# Altium integrated library TI_Logic_Flip-Flop,Latch,Register.IntLib: 2598 symbols (part 59 of 122)
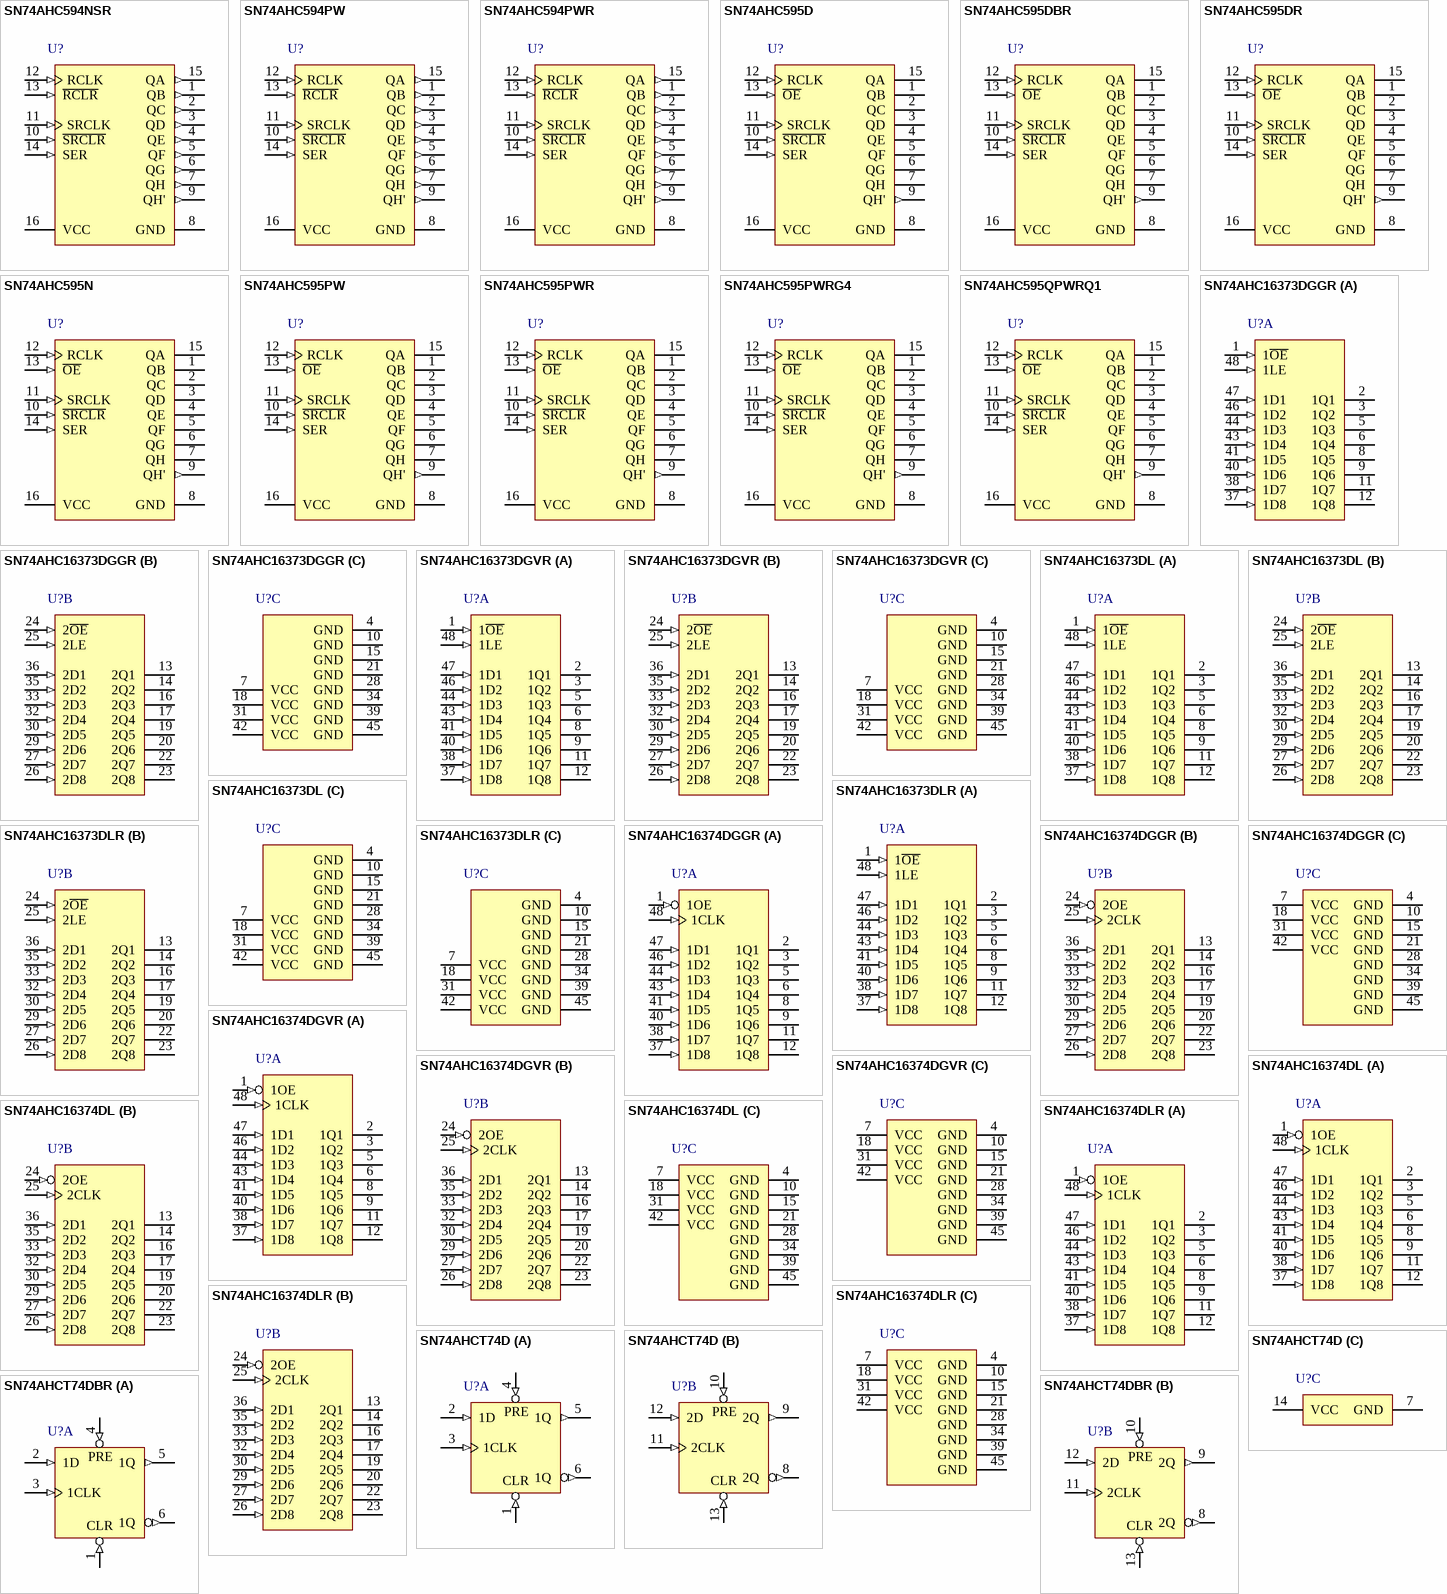
[diagram p197: symbols SN74AHC594NSR to SN74AHCT74DBR]

## SN74AHCT74D
designator U?
Dual Positive-Edge-Triggered D-Type Flip-Flops With Clear and Preset, D0014A, TUBE; Generic Part Number: SN74AHCT74; Manufacturer: Texas Instruments; PartNumber: SN74AHCT74D; VCC(Min)(V): 4.5; VCC(Max)(V): 5.5; Output Type: CMOS; Output: 3S; ICC @ Nom Voltage(Max)(mA): 0.02; Input Type: TTL; Bits(#): 2; F @ Nom Voltage(Max)(Mhz): 70; Rating: Catalog; Technology Family: AHCT; Voltage(Nom)(V): 5; Schmitt Trigger: No; Output Drive (IOL/IOH)(Max)(mA): 8/-8; Output Logic: Inverted,Non-inverted; tpd @ Nom Voltage(Max)(ns): 10; DatasheetVersion: SCLS263O; PackageReference: D0014A; Supplier 1: Digi-Key; Supplier Part Number 1: 296-4769-5-ND; Supplier 2: Farnell; Supplier Part Number 2: 9590781; Supplier 3: Newark; Supplier Part Number 3: 98K0258; Supplier 4: Mouser; Supplier Part Number 4: 595-SN74AHCT74D; Operating Temperature Range(C): -40 to 125; 3-State Output: No; Code_JEDEC: MS-012; ComponentLink1Description: Manufacturer URL; ComponentLink1URL: http://www.ti.com/; ComponentLink2Description: Datasheet; ComponentLink2URL: http://www.ti.com/lit/ds/symlink/sn74ahct74.pdf; ComponentLink3Description: Package Specification; ComponentLink3URL: http://www.ti.com/lit/ml/mpds177g/mpds177g.pdf
footprint D0014A_N (SOIC, 14-Leads, Body 8.75x4mm, Pitch 1.27mm, IPC Medium Density)
footprint D0014A_M (SOIC, 14-Leads, Body 8.75x4mm, Pitch 1.27mm, IPC Low Density)
footprint D0014A_L (SOIC, 14-Leads, Body 8.75x4mm, Pitch 1.27mm, IPC High Density)
part A pins: 1 1~{CLR} (in), 2 1D (in), 3 1CLK (in), 4 1~{PRE} (in), 5 1Q (out), 6 1Q (out)
part B pins: 8 2Q (out), 9 2Q (out), 10 2~{PRE} (in), 11 2CLK (in), 12 2D (in), 13 2~{CLR} (in)
part C pins: 7 GND (power), 14 VCC (power)
part A text: PRE; CLR
part B text: PRE; CLR

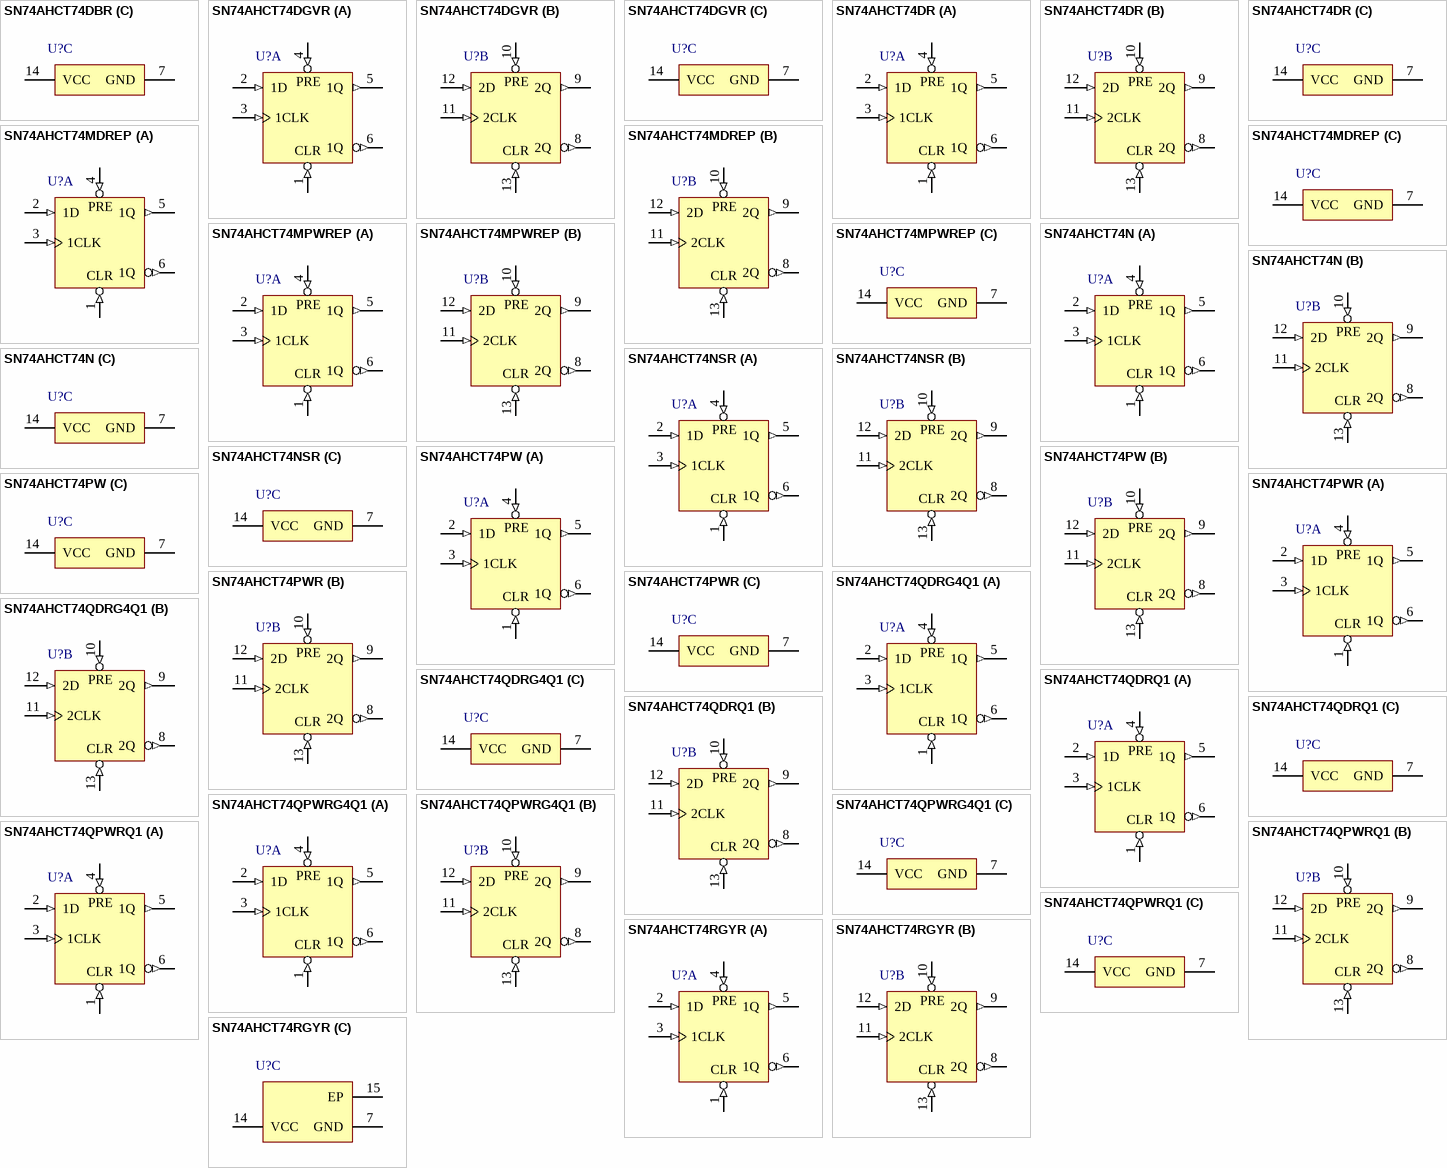
[diagram p68: symbols SN74AHCT74DBR to SN74AHCT74RGYR]

## SN74AHCT74DBR
designator U?
Dual Positive-Edge-Triggered D-Type Flip-Flops With Clear and Preset, DB0014A, LARGE T&R; Generic Part Number: SN74AHCT74; Manufacturer: Texas Instruments; PartNumber: SN74AHCT74DBR; VCC(Min)(V): 4.5; VCC(Max)(V): 5.5; Output Type: CMOS; Output: 3S; ICC @ Nom Voltage(Max)(mA): 0.02; Input Type: TTL; Bits(#): 2; F @ Nom Voltage(Max)(Mhz): 70; Rating: Catalog; Technology Family: AHCT; Voltage(Nom)(V): 5; Schmitt Trigger: No; Output Drive (IOL/IOH)(Max)(mA): 8/-8; Output Logic: Inverted,Non-inverted; tpd @ Nom Voltage(Max)(ns): 10; DatasheetVersion: SCLS263O; PackageReference: DB0014A; Supplier 1: Digi-Key; Supplier Part Number 1: 296-4770-2-ND; Supplier 2: Digi-Key; Supplier Part Number 2: 296-4770-1-ND; Supplier 3: Digi-Key; Supplier Part Number 3: 296-4770-6-ND; Supplier 4: Newark; Supplier Part Number 4: 76C1673; Supplier 5: Mouser; Supplier Part Number 5: 595-SN74AHCT74DBR; Operating Temperature Range(C): -40 to 125; 3-State Output: No; Code_JEDEC: MO-150; ComponentLink1Description: Manufacturer URL; ComponentLink1URL: http://www.ti.com/; ComponentLink2Description: Datasheet; ComponentLink2URL: http://www.ti.com/lit/ds/symlink/sn74ahct74.pdf; ComponentLink3Description: Package Specification; ComponentLink3URL: http://www.ti.com/lit/ml/msso002e/msso002e.pdf
footprint DB0014A_N (SOP, 14-Leads, Body 5.6x6.5mm, Pitch 0.65mm, IPC Medium Density)
footprint DB0014A_M (SOP, 14-Leads, Body 5.6x6.5mm, Pitch 0.65mm, IPC Low Density)
footprint DB0014A_L (SOP, 14-Leads, Body 5.6x6.5mm, Pitch 0.65mm, IPC High Density)
part A pins: 1 1~{CLR} (in), 2 1D (in), 3 1CLK (in), 4 1~{PRE} (in), 5 1Q (out), 6 1Q (out)
part B pins: 8 2Q (out), 9 2Q (out), 10 2~{PRE} (in), 11 2CLK (in), 12 2D (in), 13 2~{CLR} (in)
part C pins: 7 GND (power), 14 VCC (power)
part A text: PRE; CLR
part B text: PRE; CLR

## SN74AHCT74DGVR
designator U?
Dual Positive-Edge-Triggered D-Type Flip-Flops With Clear and Preset, DGV0014A, LARGE T&R; Generic Part Number: SN74AHCT74; Manufacturer: Texas Instruments; PartNumber: SN74AHCT74DGVR; VCC(Min)(V): 4.5; VCC(Max)(V): 5.5; Output Type: CMOS; Output: 3S; ICC @ Nom Voltage(Max)(mA): 0.02; Input Type: TTL; Bits(#): 2; F @ Nom Voltage(Max)(Mhz): 70; Rating: Catalog; Technology Family: AHCT; Voltage(Nom)(V): 5; Schmitt Trigger: No; Output Drive (IOL/IOH)(Max)(mA): 8/-8; Output Logic: Inverted,Non-inverted; tpd @ Nom Voltage(Max)(ns): 10; DatasheetVersion: SCLS263O; PackageReference: DGV0014A; Supplier 1: Digi-Key; Supplier Part Number 1: 296-4771-2-ND; Supplier 2: Digi-Key; Supplier Part Number 2: 296-4771-1-ND; Supplier 3: Digi-Key; Supplier Part Number 3: 296-4771-6-ND; Supplier 4: Mouser; Supplier Part Number 4: 595-SN74AHCT74DGVR; Operating Temperature Range(C): -40 to 125; 3-State Output: No; Code_JEDEC: MO-194; ComponentLink1Description: Manufacturer URL; ComponentLink1URL: http://www.ti.com/; ComponentLink2Description: Datasheet; ComponentLink2URL: http://www.ti.com/lit/ds/symlink/sn74ahct74.pdf; ComponentLink3Description: Package Specification; ComponentLink3URL: http://www.ti.com/lit/ml/mpds006c/mpds006c.pdf
footprint DGV0014A_N (SOP, 14-Leads, Body 4.5x3.7mm, Pitch 0.4mm, IPC Medium Density)
footprint DGV0014A_M (SOP, 14-Leads, Body 4.5x3.7mm, Pitch 0.4mm, IPC Low Density)
footprint DGV0014A_L (SOP, 14-Leads, Body 4.5x3.7mm, Pitch 0.4mm, IPC High Density)
part A pins: 1 1~{CLR} (in), 2 1D (in), 3 1CLK (in), 4 1~{PRE} (in), 5 1Q (out), 6 1Q (out)
part B pins: 8 2Q (out), 9 2Q (out), 10 2~{PRE} (in), 11 2CLK (in), 12 2D (in), 13 2~{CLR} (in)
part C pins: 7 GND (power), 14 VCC (power)
part A text: PRE; CLR
part B text: PRE; CLR

## SN74AHCT74DR
designator U?
Dual Positive-Edge-Triggered D-Type Flip-Flops With Clear and Preset, D0014A, LARGE T&R; Generic Part Number: SN74AHCT74; Manufacturer: Texas Instruments; PartNumber: SN74AHCT74DR; VCC(Min)(V): 4.5; VCC(Max)(V): 5.5; Output Type: CMOS; Output: 3S; ICC @ Nom Voltage(Max)(mA): 0.02; Input Type: TTL; Bits(#): 2; F @ Nom Voltage(Max)(Mhz): 70; Rating: Catalog; Technology Family: AHCT; Voltage(Nom)(V): 5; Schmitt Trigger: No; Output Drive (IOL/IOH)(Max)(mA): 8/-8; Output Logic: Inverted,Non-inverted; tpd @ Nom Voltage(Max)(ns): 10; DatasheetVersion: SCLS263O; PackageReference: D0014A; Supplier 1: Digi-Key; Supplier Part Number 1: 296-14704-2-ND; Supplier 2: Digi-Key; Supplier Part Number 2: 296-14704-1-ND; Supplier 3: Digi-Key; Supplier Part Number 3: 296-14704-6-ND; Supplier 4: Newark; Supplier Part Number 4: 76C1675; Supplier 5: Mouser; Supplier Part Number 5: 595-SN74AHCT74DR; Operating Temperature Range(C): -40 to 125; 3-State Output: No; Code_JEDEC: MS-012; ComponentLink1Description: Manufacturer URL; ComponentLink1URL: http://www.ti.com/; ComponentLink2Description: Datasheet; ComponentLink2URL: http://www.ti.com/lit/ds/symlink/sn74ahct74.pdf; ComponentLink3Description: Package Specification; ComponentLink3URL: http://www.ti.com/lit/ml/mpds177g/mpds177g.pdf
footprint D0014A_N (SOIC, 14-Leads, Body 8.75x4mm, Pitch 1.27mm, IPC Medium Density)
footprint D0014A_M (SOIC, 14-Leads, Body 8.75x4mm, Pitch 1.27mm, IPC Low Density)
footprint D0014A_L (SOIC, 14-Leads, Body 8.75x4mm, Pitch 1.27mm, IPC High Density)
part A pins: 1 1~{CLR} (in), 2 1D (in), 3 1CLK (in), 4 1~{PRE} (in), 5 1Q (out), 6 1Q (out)
part B pins: 8 2Q (out), 9 2Q (out), 10 2~{PRE} (in), 11 2CLK (in), 12 2D (in), 13 2~{CLR} (in)
part C pins: 7 GND (power), 14 VCC (power)
part A text: PRE; CLR
part B text: PRE; CLR

## SN74AHCT74MDREP
designator U?
Enhanced Product Dual Positive-Edge-Triggered D-Type Flip-Flop With Clear And Preset, D0014A, LARGE T&R; Generic Part Number: SN74AHCT74-EP; Manufacturer: Texas Instruments; PartNumber: SN74AHCT74MDREP; VCC(Min)(V): 4.5; VCC(Max)(V): 5.5; Output Type: CMOS; Output: 3S; ICC @ Nom Voltage(Max)(mA): 0.02; Input Type: TTL; Bits(#): 2; F @ Nom Voltage(Max)(Mhz): 70; Rating: HiRel Enhanced Product; Technology Family: AHCT; Voltage(Nom)(V): 5; Schmitt Trigger: No; Output Drive (IOL/IOH)(Max)(mA): 8/-8; Output Logic: Inverted,Non-inverted; tpd @ Nom Voltage(Max)(ns): 10; DatasheetVersion: SCLS495; PackageReference: D0014A; Supplier 1: Digi-Key; Supplier Part Number 1: 296-22289-2-ND; Supplier 2: Digi-Key; Supplier Part Number 2: 296-22289-1-ND; Supplier 3: Digi-Key; Supplier Part Number 3: 296-22289-6-ND; Supplier 4: Mouser; Supplier Part Number 4: 595-SN74AHCT74MDREP; Operating Temperature Range(C): -55 to 125; 3-State Output: No; Code_JEDEC: MS-012; ComponentLink1Description: Manufacturer URL; ComponentLink1URL: http://www.ti.com/; ComponentLink2Description: Datasheet; ComponentLink2URL: http://www.ti.com/lit/ds/symlink/sn74ahct74-ep.pdf; ComponentLink3Description: Package Specification; ComponentLink3URL: http://www.ti.com/lit/ml/mpds177g/mpds177g.pdf
footprint D0014A_N (SOIC, 14-Leads, Body 8.75x4mm, Pitch 1.27mm, IPC Medium Density)
footprint D0014A_M (SOIC, 14-Leads, Body 8.75x4mm, Pitch 1.27mm, IPC Low Density)
footprint D0014A_L (SOIC, 14-Leads, Body 8.75x4mm, Pitch 1.27mm, IPC High Density)
part A pins: 1 1~{CLR} (in), 2 1D (in), 3 1CLK (in), 4 1~{PRE} (in), 5 1Q (out), 6 1Q (out)
part B pins: 8 2Q (out), 9 2Q (out), 10 2~{PRE} (in), 11 2CLK (in), 12 2D (in), 13 2~{CLR} (in)
part C pins: 7 GND (power), 14 VCC (power)
part A text: PRE; CLR
part B text: PRE; CLR

## SN74AHCT74MPWREP
designator U?
Enhanced Product Dual Positive-Edge-Triggered D-Type Flip-Flop With Clear And Preset, PW0014A, LARGE T&R; Generic Part Number: SN74AHCT74-EP; Manufacturer: Texas Instruments; PartNumber: SN74AHCT74MPWREP; VCC(Min)(V): 4.5; VCC(Max)(V): 5.5; Output Type: CMOS; Output: 3S; ICC @ Nom Voltage(Max)(mA): 0.02; Input Type: TTL; Bits(#): 2; F @ Nom Voltage(Max)(Mhz): 70; Rating: HiRel Enhanced Product; Technology Family: AHCT; Voltage(Nom)(V): 5; Schmitt Trigger: No; Output Drive (IOL/IOH)(Max)(mA): 8/-8; Output Logic: Inverted,Non-inverted; tpd @ Nom Voltage(Max)(ns): 10; DatasheetVersion: SCLS495; PackageReference: PW0014A; Supplier 1: Digi-Key; Supplier Part Number 1: 296-22541-2-ND; Supplier 2: Digi-Key; Supplier Part Number 2: 296-22541-1-ND; Supplier 3: Digi-Key; Supplier Part Number 3: 296-22541-6-ND; Supplier 4: Mouser; Supplier Part Number 4: 595-SN74AHCT74MPWREP; Operating Temperature Range(C): -55 to 125; 3-State Output: No; Code_JEDEC: MO-153; ComponentLink1Description: Manufacturer URL; ComponentLink1URL: http://www.ti.com/; ComponentLink2Description: Datasheet; ComponentLink2URL: http://www.ti.com/lit/ds/symlink/sn74ahct74-ep.pdf; ComponentLink3Description: Package Specification; ComponentLink3URL: http://www.ti.com/lit/ml/mpds360/mpds360.pdf
footprint PW0014A_N (SOP, 14-Leads, Body 5.1x4.5mm, Pitch 0.65mm, IPC Medium Density)
footprint PW0014A_M (SOP, 14-Leads, Body 5.1x4.5mm, Pitch 0.65mm, IPC Low Density)
footprint PW0014A_L (SOP, 14-Leads, Body 5.1x4.5mm, Pitch 0.65mm, IPC High Density)
part A pins: 1 1~{CLR} (in), 2 1D (in), 3 1CLK (in), 4 1~{PRE} (in), 5 1Q (out), 6 1Q (out)
part B pins: 8 2Q (out), 9 2Q (out), 10 2~{PRE} (in), 11 2CLK (in), 12 2D (in), 13 2~{CLR} (in)
part C pins: 7 GND (power), 14 VCC (power)
part A text: PRE; CLR
part B text: PRE; CLR

## SN74AHCT74N
designator U?
Dual Positive-Edge-Triggered D-Type Flip-Flops With Clear and Preset, N0014A, TUBE; Generic Part Number: SN74AHCT74; Manufacturer: Texas Instruments; PartNumber: SN74AHCT74N; VCC(Min)(V): 4.5; VCC(Max)(V): 5.5; Output Type: CMOS; Output: 3S; ICC @ Nom Voltage(Max)(mA): 0.02; Input Type: TTL; Bits(#): 2; F @ Nom Voltage(Max)(Mhz): 70; Rating: Catalog; Technology Family: AHCT; Voltage(Nom)(V): 5; Schmitt Trigger: No; Output Drive (IOL/IOH)(Max)(mA): 8/-8; Output Logic: Inverted,Non-inverted; tpd @ Nom Voltage(Max)(ns): 10; DatasheetVersion: SCLS263O; PackageReference: N0014A; Supplier 1: Digi-Key; Supplier Part Number 1: 296-4772-5-ND; Supplier 2: Farnell; Supplier Part Number 2: 1749944; Supplier 3: Newark; Supplier Part Number 3: 34R8408; Supplier 4: Mouser; Supplier Part Number 4: 595-SN74AHCT74N; Operating Temperature Range(C): -40 to 125; 3-State Output: No; Code_JEDEC: MS-001; ComponentLink1Description: Manufacturer URL; ComponentLink1URL: http://www.ti.com/; ComponentLink2Description: Datasheet; ComponentLink2URL: http://www.ti.com/lit/ds/symlink/sn74ahct74.pdf; ComponentLink3Description: Package Specification; ComponentLink3URL: http://www.ti.com/lit/ml/mpdi002c/mpdi002c.pdf
footprint N0014A (DIP, 14-Leads, Body 19.7x6.6mm, Pitch 2.54mm)
part A pins: 1 1~{CLR} (in), 2 1D (in), 3 1CLK (in), 4 1~{PRE} (in), 5 1Q (out), 6 1Q (out)
part B pins: 8 2Q (out), 9 2Q (out), 10 2~{PRE} (in), 11 2CLK (in), 12 2D (in), 13 2~{CLR} (in)
part C pins: 7 GND (power), 14 VCC (power)
part A text: PRE; CLR
part B text: PRE; CLR

## SN74AHCT74NSR
designator U?
Dual Positive-Edge-Triggered D-Type Flip-Flops With Clear and Preset, NS0014A, LARGE T&R; Generic Part Number: SN74AHCT74; Manufacturer: Texas Instruments; PartNumber: SN74AHCT74NSR; VCC(Min)(V): 4.5; VCC(Max)(V): 5.5; Output Type: CMOS; Output: 3S; ICC @ Nom Voltage(Max)(mA): 0.02; Input Type: TTL; Bits(#): 2; F @ Nom Voltage(Max)(Mhz): 70; Rating: Catalog; Technology Family: AHCT; Voltage(Nom)(V): 5; Schmitt Trigger: No; Output Drive (IOL/IOH)(Max)(mA): 8/-8; Output Logic: Inverted,Non-inverted; tpd @ Nom Voltage(Max)(ns): 10; DatasheetVersion: SCLS263O; PackageReference: NS0014A; Supplier 1: Digi-Key; Supplier Part Number 1: SN74AHCT74NSR-ND; Supplier 2: Mouser; Supplier Part Number 2: 595-SN74AHCT74NSR; Operating Temperature Range(C): -40 to 125; 3-State Output: No; ComponentLink1Description: Manufacturer URL; ComponentLink1URL: http://www.ti.com/; ComponentLink2Description: Datasheet; ComponentLink2URL: http://www.ti.com/lit/ds/symlink/sn74ahct74.pdf; ComponentLink3Description: Package Specification; ComponentLink3URL: http://www.ti.com/lit/ml/msop002a/msop002a.pdf
footprint NS0014A_N (SOIC,14-Leads,Body 10.5x5.6mm,Pitch 1.27mm,IPC Medium Density)
footprint NS0014A_M (SOIC,14-Leads,Body 10.5x5.6mm,Pitch 1.27mm,IPC Low Density)
footprint NS0014A_L (SOIC,14-Leads,Body 10.5x5.6mm,Pitch 0.4mm,IPC High Density)
part A pins: 1 1~{CLR} (in), 2 1D (in), 3 1CLK (in), 4 1~{PRE} (in), 5 1Q (out), 6 1Q (out)
part B pins: 8 2Q (out), 9 2Q (out), 10 2~{PRE} (in), 11 2CLK (in), 12 2D (in), 13 2~{CLR} (in)
part C pins: 7 GND (power), 14 VCC (power)
part A text: PRE; CLR
part B text: PRE; CLR

## SN74AHCT74PW
designator U?
Dual Positive-Edge-Triggered D-Type Flip-Flops With Clear and Preset, PW0014A, TUBE; Generic Part Number: SN74AHCT74; Manufacturer: Texas Instruments; PartNumber: SN74AHCT74PW; VCC(Min)(V): 4.5; VCC(Max)(V): 5.5; Output Type: CMOS; Output: 3S; ICC @ Nom Voltage(Max)(mA): 0.02; Input Type: TTL; Bits(#): 2; F @ Nom Voltage(Max)(Mhz): 70; Rating: Catalog; Technology Family: AHCT; Voltage(Nom)(V): 5; Schmitt Trigger: No; Output Drive (IOL/IOH)(Max)(mA): 8/-8; Output Logic: Inverted,Non-inverted; tpd @ Nom Voltage(Max)(ns): 10; DatasheetVersion: SCLS263O; PackageReference: PW0014A; Supplier 1: Digi-Key; Supplier Part Number 1: 296-33696-5-ND; Supplier 2: Farnell; Supplier Part Number 2: 9590790; Supplier 3: Newark; Supplier Part Number 3: 98K0259; Supplier 4: Mouser; Supplier Part Number 4: 595-SN74AHCT74PW; Operating Temperature Range(C): -40 to 125; 3-State Output: No; Code_JEDEC: MO-153; ComponentLink1Description: Manufacturer URL; ComponentLink1URL: http://www.ti.com/; ComponentLink2Description: Datasheet; ComponentLink2URL: http://www.ti.com/lit/ds/symlink/sn74ahct74.pdf; ComponentLink3Description: Package Specification; ComponentLink3URL: http://www.ti.com/lit/ml/mpds360/mpds360.pdf
footprint PW0014A_N (SOP, 14-Leads, Body 5.1x4.5mm, Pitch 0.65mm, IPC Medium Density)
footprint PW0014A_M (SOP, 14-Leads, Body 5.1x4.5mm, Pitch 0.65mm, IPC Low Density)
footprint PW0014A_L (SOP, 14-Leads, Body 5.1x4.5mm, Pitch 0.65mm, IPC High Density)
part A pins: 1 1~{CLR} (in), 2 1D (in), 3 1CLK (in), 4 1~{PRE} (in), 5 1Q (out), 6 1Q (out)
part B pins: 8 2Q (out), 9 2Q (out), 10 2~{PRE} (in), 11 2CLK (in), 12 2D (in), 13 2~{CLR} (in)
part C pins: 7 GND (power), 14 VCC (power)
part A text: PRE; CLR
part B text: PRE; CLR

## SN74AHCT74PWR
designator U?
Dual Positive-Edge-Triggered D-Type Flip-Flops With Clear and Preset, PW0014A, LARGE T&R; Generic Part Number: SN74AHCT74; Manufacturer: Texas Instruments; PartNumber: SN74AHCT74PWR; VCC(Min)(V): 4.5; VCC(Max)(V): 5.5; Output Type: CMOS; Output: 3S; ICC @ Nom Voltage(Max)(mA): 0.02; Input Type: TTL; Bits(#): 2; F @ Nom Voltage(Max)(Mhz): 70; Rating: Catalog; Technology Family: AHCT; Voltage(Nom)(V): 5; Schmitt Trigger: No; Output Drive (IOL/IOH)(Max)(mA): 8/-8; Output Logic: Inverted,Non-inverted; tpd @ Nom Voltage(Max)(ns): 10; DatasheetVersion: SCLS263O; PackageReference: PW0014A; Supplier 1: Digi-Key; Supplier Part Number 1: 296-4773-2-ND; Supplier 2: Digi-Key; Supplier Part Number 2: 296-4773-1-ND; Supplier 3: Digi-Key; Supplier Part Number 3: 296-4773-6-ND; Supplier 4: Newark; Supplier Part Number 4: 76C1677; Supplier 5: Mouser; Supplier Part Number 5: 595-SN74AHCT74PWR; Operating Temperature Range(C): -40 to 125; 3-State Output: No; Code_JEDEC: MO-153; ComponentLink1Description: Manufacturer URL; ComponentLink1URL: http://www.ti.com/; ComponentLink2Description: Datasheet; ComponentLink2URL: http://www.ti.com/lit/ds/symlink/sn74ahct74.pdf; ComponentLink3Description: Package Specification; ComponentLink3URL: http://www.ti.com/lit/ml/mpds360/mpds360.pdf
footprint PW0014A_N (SOP, 14-Leads, Body 5.1x4.5mm, Pitch 0.65mm, IPC Medium Density)
footprint PW0014A_M (SOP, 14-Leads, Body 5.1x4.5mm, Pitch 0.65mm, IPC Low Density)
footprint PW0014A_L (SOP, 14-Leads, Body 5.1x4.5mm, Pitch 0.65mm, IPC High Density)
part A pins: 1 1~{CLR} (in), 2 1D (in), 3 1CLK (in), 4 1~{PRE} (in), 5 1Q (out), 6 1Q (out)
part B pins: 8 2Q (out), 9 2Q (out), 10 2~{PRE} (in), 11 2CLK (in), 12 2D (in), 13 2~{CLR} (in)
part C pins: 7 GND (power), 14 VCC (power)
part A text: PRE; CLR
part B text: PRE; CLR

## SN74AHCT74QDRG4Q1
designator U?
Automotive Catalog Dual Positive-Edge-Triggered D-Type Flip-Flop With Clear and Preset, D0014A, LARGE T&R; Generic Part Number: SN74AHCT74Q-Q1; Manufacturer: Texas Instruments; PartNumber: SN74AHCT74QDRG4Q1; VCC(Min)(V): 4.5; VCC(Max)(V): 5.5; Output Type: CMOS; Output: 3S; ICC @ Nom Voltage(Max)(mA): 0.02; Input Type: TTL; Bits(#): 2; F @ Nom Voltage(Max)(Mhz): 70; Technology Family: AHCT; Voltage(Nom)(V): 5; Schmitt Trigger: No; Output Drive (IOL/IOH)(Max)(mA): 8/-8; Output Logic: Inverted; tpd @ Nom Voltage(Max)(ns): 13; DatasheetVersion: SGDS008B; PackageReference: D0014A; Supplier 1: Digi-Key; Supplier Part Number 1: SN74AHCT74QDRG4Q1-ND; Supplier 2: Mouser; Supplier Part Number 2: 595-S74AHCT74QDRG4Q1; Operating Temperature Range(C): -40 to 125; Rating: Automotive; 3-State Output: No; Code_JEDEC: MS-012; ComponentLink1Description: Manufacturer URL; ComponentLink1URL: http://www.ti.com/; ComponentLink2Description: Datasheet; ComponentLink2URL: http://www.ti.com/lit/ds/symlink/sn74ahct74q-q1.pdf; ComponentLink3Description: Package Specification; ComponentLink3URL: http://www.ti.com/lit/ml/mpds177g/mpds177g.pdf
footprint D0014A_N (SOIC, 14-Leads, Body 8.75x4mm, Pitch 1.27mm, IPC Medium Density)
footprint D0014A_M (SOIC, 14-Leads, Body 8.75x4mm, Pitch 1.27mm, IPC Low Density)
footprint D0014A_L (SOIC, 14-Leads, Body 8.75x4mm, Pitch 1.27mm, IPC High Density)
part A pins: 1 1~{CLR} (in), 2 1D (in), 3 1CLK (in), 4 1~{PRE} (in), 5 1Q (out), 6 1Q (out)
part B pins: 8 2Q (out), 9 2Q (out), 10 2~{PRE} (in), 11 2CLK (in), 12 2D (in), 13 2~{CLR} (in)
part C pins: 7 GND (power), 14 VCC (power)
part A text: PRE; CLR
part B text: PRE; CLR

## SN74AHCT74QDRQ1
designator U?
Automotive Catalog Dual Positive-Edge-Triggered D-Type Flip-Flop With Clear and Preset, D0014A, LARGE T&R; Generic Part Number: SN74AHCT74Q-Q1; Manufacturer: Texas Instruments; PartNumber: SN74AHCT74QDRQ1; VCC(Min)(V): 4.5; VCC(Max)(V): 5.5; Output Type: CMOS; Output: 3S; ICC @ Nom Voltage(Max)(mA): 0.02; Input Type: TTL; Bits(#): 2; F @ Nom Voltage(Max)(Mhz): 70; Technology Family: AHCT; Voltage(Nom)(V): 5; Schmitt Trigger: No; Output Drive (IOL/IOH)(Max)(mA): 8/-8; Output Logic: Inverted; tpd @ Nom Voltage(Max)(ns): 13; DatasheetVersion: SGDS008B; PackageReference: D0014A; Supplier 1: Digi-Key; Supplier Part Number 1: 296-28866-2-ND; Supplier 2: Digi-Key; Supplier Part Number 2: 296-28866-1-ND; Supplier 3: Digi-Key; Supplier Part Number 3: 296-28866-6-ND; Supplier 4: Mouser; Supplier Part Number 4: 595-SN74AHCT74QDRQ1; Operating Temperature Range(C): -40 to 125; Rating: Automotive; 3-State Output: No; Code_JEDEC: MS-012; ComponentLink1Description: Manufacturer URL; ComponentLink1URL: http://www.ti.com/; ComponentLink2Description: Datasheet; ComponentLink2URL: http://www.ti.com/lit/ds/symlink/sn74ahct74q-q1.pdf; ComponentLink3Description: Package Specification; ComponentLink3URL: http://www.ti.com/lit/ml/mpds177g/mpds177g.pdf
footprint D0014A_N (SOIC, 14-Leads, Body 8.75x4mm, Pitch 1.27mm, IPC Medium Density)
footprint D0014A_M (SOIC, 14-Leads, Body 8.75x4mm, Pitch 1.27mm, IPC Low Density)
footprint D0014A_L (SOIC, 14-Leads, Body 8.75x4mm, Pitch 1.27mm, IPC High Density)
part A pins: 1 1~{CLR} (in), 2 1D (in), 3 1CLK (in), 4 1~{PRE} (in), 5 1Q (out), 6 1Q (out)
part B pins: 8 2Q (out), 9 2Q (out), 10 2~{PRE} (in), 11 2CLK (in), 12 2D (in), 13 2~{CLR} (in)
part C pins: 7 GND (power), 14 VCC (power)
part A text: PRE; CLR
part B text: PRE; CLR

## SN74AHCT74QPWRG4Q1
designator U?
Automotive Catalog Dual Positive-Edge-Triggered D-Type Flip-Flop With Clear and Preset, PW0014A, LARGE T&R; Generic Part Number: SN74AHCT74Q-Q1; Manufacturer: Texas Instruments; PartNumber: SN74AHCT74QPWRG4Q1; VCC(Min)(V): 4.5; VCC(Max)(V): 5.5; Output Type: CMOS; Output: 3S; ICC @ Nom Voltage(Max)(mA): 0.02; Input Type: TTL; Bits(#): 2; F @ Nom Voltage(Max)(Mhz): 70; Technology Family: AHCT; Voltage(Nom)(V): 5; Schmitt Trigger: No; Output Drive (IOL/IOH)(Max)(mA): 8/-8; Output Logic: Inverted; tpd @ Nom Voltage(Max)(ns): 13; DatasheetVersion: SGDS008B; PackageReference: PW0014A; Supplier 1: Digi-Key; Supplier Part Number 1: 296-24030-2-ND; Supplier 2: Digi-Key; Supplier Part Number 2: 296-24030-1-ND; Supplier 3: Digi-Key; Supplier Part Number 3: 296-24030-6-ND; Supplier 4: Mouser; Supplier Part Number 4: 595-74AHCT74QPWRG4Q1; Operating Temperature Range(C): -40 to 125; Rating: Automotive; 3-State Output: No; Code_JEDEC: MO-153; ComponentLink1Description: Manufacturer URL; ComponentLink1URL: http://www.ti.com/; ComponentLink2Description: Datasheet; ComponentLink2URL: http://www.ti.com/lit/ds/symlink/sn74ahct74q-q1.pdf; ComponentLink3Description: Package Specification; ComponentLink3URL: http://www.ti.com/lit/ml/mpds360/mpds360.pdf
footprint PW0014A_N (SOP, 14-Leads, Body 5.1x4.5mm, Pitch 0.65mm, IPC Medium Density)
footprint PW0014A_M (SOP, 14-Leads, Body 5.1x4.5mm, Pitch 0.65mm, IPC Low Density)
footprint PW0014A_L (SOP, 14-Leads, Body 5.1x4.5mm, Pitch 0.65mm, IPC High Density)
part A pins: 1 1~{CLR} (in), 2 1D (in), 3 1CLK (in), 4 1~{PRE} (in), 5 1Q (out), 6 1Q (out)
part B pins: 8 2Q (out), 9 2Q (out), 10 2~{PRE} (in), 11 2CLK (in), 12 2D (in), 13 2~{CLR} (in)
part C pins: 7 GND (power), 14 VCC (power)
part A text: PRE; CLR
part B text: PRE; CLR

## SN74AHCT74QPWRQ1
designator U?
Automotive Catalog Dual Positive-Edge-Triggered D-Type Flip-Flop With Clear and Preset, PW0014A, LARGE T&R; Generic Part Number: SN74AHCT74Q-Q1; Manufacturer: Texas Instruments; PartNumber: SN74AHCT74QPWRQ1; VCC(Min)(V): 4.5; VCC(Max)(V): 5.5; Output Type: CMOS; Output: 3S; ICC @ Nom Voltage(Max)(mA): 0.02; Input Type: TTL; Bits(#): 2; F @ Nom Voltage(Max)(Mhz): 70; Technology Family: AHCT; Voltage(Nom)(V): 5; Schmitt Trigger: No; Output Drive (IOL/IOH)(Max)(mA): 8/-8; Output Logic: Inverted; tpd @ Nom Voltage(Max)(ns): 13; DatasheetVersion: SGDS008B; PackageReference: PW0014A; Supplier 1: Digi-Key; Supplier Part Number 1: SN74AHCT74QPWRQ1-ND; Supplier 2: Mouser; Supplier Part Number 2: 595-SN74AHCT74QPWRQ1; Operating Temperature Range(C): -40 to 125; Rating: Automotive; 3-State Output: No; Code_JEDEC: MO-153; ComponentLink1Description: Manufacturer URL; ComponentLink1URL: http://www.ti.com/; ComponentLink2Description: Datasheet; ComponentLink2URL: http://www.ti.com/lit/ds/symlink/sn74ahct74q-q1.pdf; ComponentLink3Description: Package Specification; ComponentLink3URL: http://www.ti.com/lit/ml/mpds360/mpds360.pdf
footprint PW0014A_N (SOP, 14-Leads, Body 5.1x4.5mm, Pitch 0.65mm, IPC Medium Density)
footprint PW0014A_M (SOP, 14-Leads, Body 5.1x4.5mm, Pitch 0.65mm, IPC Low Density)
footprint PW0014A_L (SOP, 14-Leads, Body 5.1x4.5mm, Pitch 0.65mm, IPC High Density)
part A pins: 1 1~{CLR} (in), 2 1D (in), 3 1CLK (in), 4 1~{PRE} (in), 5 1Q (out), 6 1Q (out)
part B pins: 8 2Q (out), 9 2Q (out), 10 2~{PRE} (in), 11 2CLK (in), 12 2D (in), 13 2~{CLR} (in)
part C pins: 7 GND (power), 14 VCC (power)
part A text: PRE; CLR
part B text: PRE; CLR

## SN74AHCT74RGYR
designator U?
Dual Positive-Edge-Triggered D-Type Flip-Flops With Clear and Preset, RGY0014A, LARGE T&R; Generic Part Number: SN74AHCT74; Manufacturer: Texas Instruments; PartNumber: SN74AHCT74RGYR; VCC(Min)(V): 4.5; VCC(Max)(V): 5.5; Output Type: CMOS; Output: 3S; ICC @ Nom Voltage(Max)(mA): 0.02; Input Type: TTL; Bits(#): 2; F @ Nom Voltage(Max)(Mhz): 70; Rating: Catalog; Technology Family: AHCT; Voltage(Nom)(V): 5; Schmitt Trigger: No; Output Drive (IOL/IOH)(Max)(mA): 8/-8; Output Logic: Inverted,Non-inverted; tpd @ Nom Voltage(Max)(ns): 10; DatasheetVersion: SCLS263O; PackageReference: RGY0014A; Supplier 1: Digi-Key; Supplier Part Number 1: 296-13914-2-ND; Supplier 2: Digi-Key; Supplier Part Number 2: 296-13914-1-ND; Supplier 3: Digi-Key; Supplier Part Number 3: 296-13914-6-ND; Supplier 4: Newark; Supplier Part Number 4: 02E6917; Supplier 5: Mouser; Supplier Part Number 5: 595-SN74AHCT74RGYR; Operating Temperature Range(C): -40 to 125; 3-State Output: No; Code_JEDEC: MO-241; ComponentLink1Description: Manufacturer URL; ComponentLink1URL: http://www.ti.com/; ComponentLink2Description: Datasheet; ComponentLink2URL: http://www.ti.com/lit/ds/symlink/sn74ahct74.pdf; ComponentLink3Description: Package Specification; ComponentLink3URL: http://www.ti.com/lit/ml/mpqf114g/mpqf114g.pdf
footprint RGY0014A_V (QFN, 14-Leads, Body 3.5x3.5mm, Thermal Pad 2.05x2.05mm, TI Recommend)
part A pins: 1 1~{CLR} (in), 2 1D (in), 3 1CLK (in), 4 1~{PRE} (in), 5 1Q (out), 6 1Q (out)
part B pins: 8 2Q (out), 9 2Q (out), 10 2~{PRE} (in), 11 2CLK (in), 12 2D (in), 13 2~{CLR} (in)
part C pins: 7 GND (power), 14 VCC (power) "Supply voltage input", 15 EP
part A text: PRE; CLR
part B text: PRE; CLR

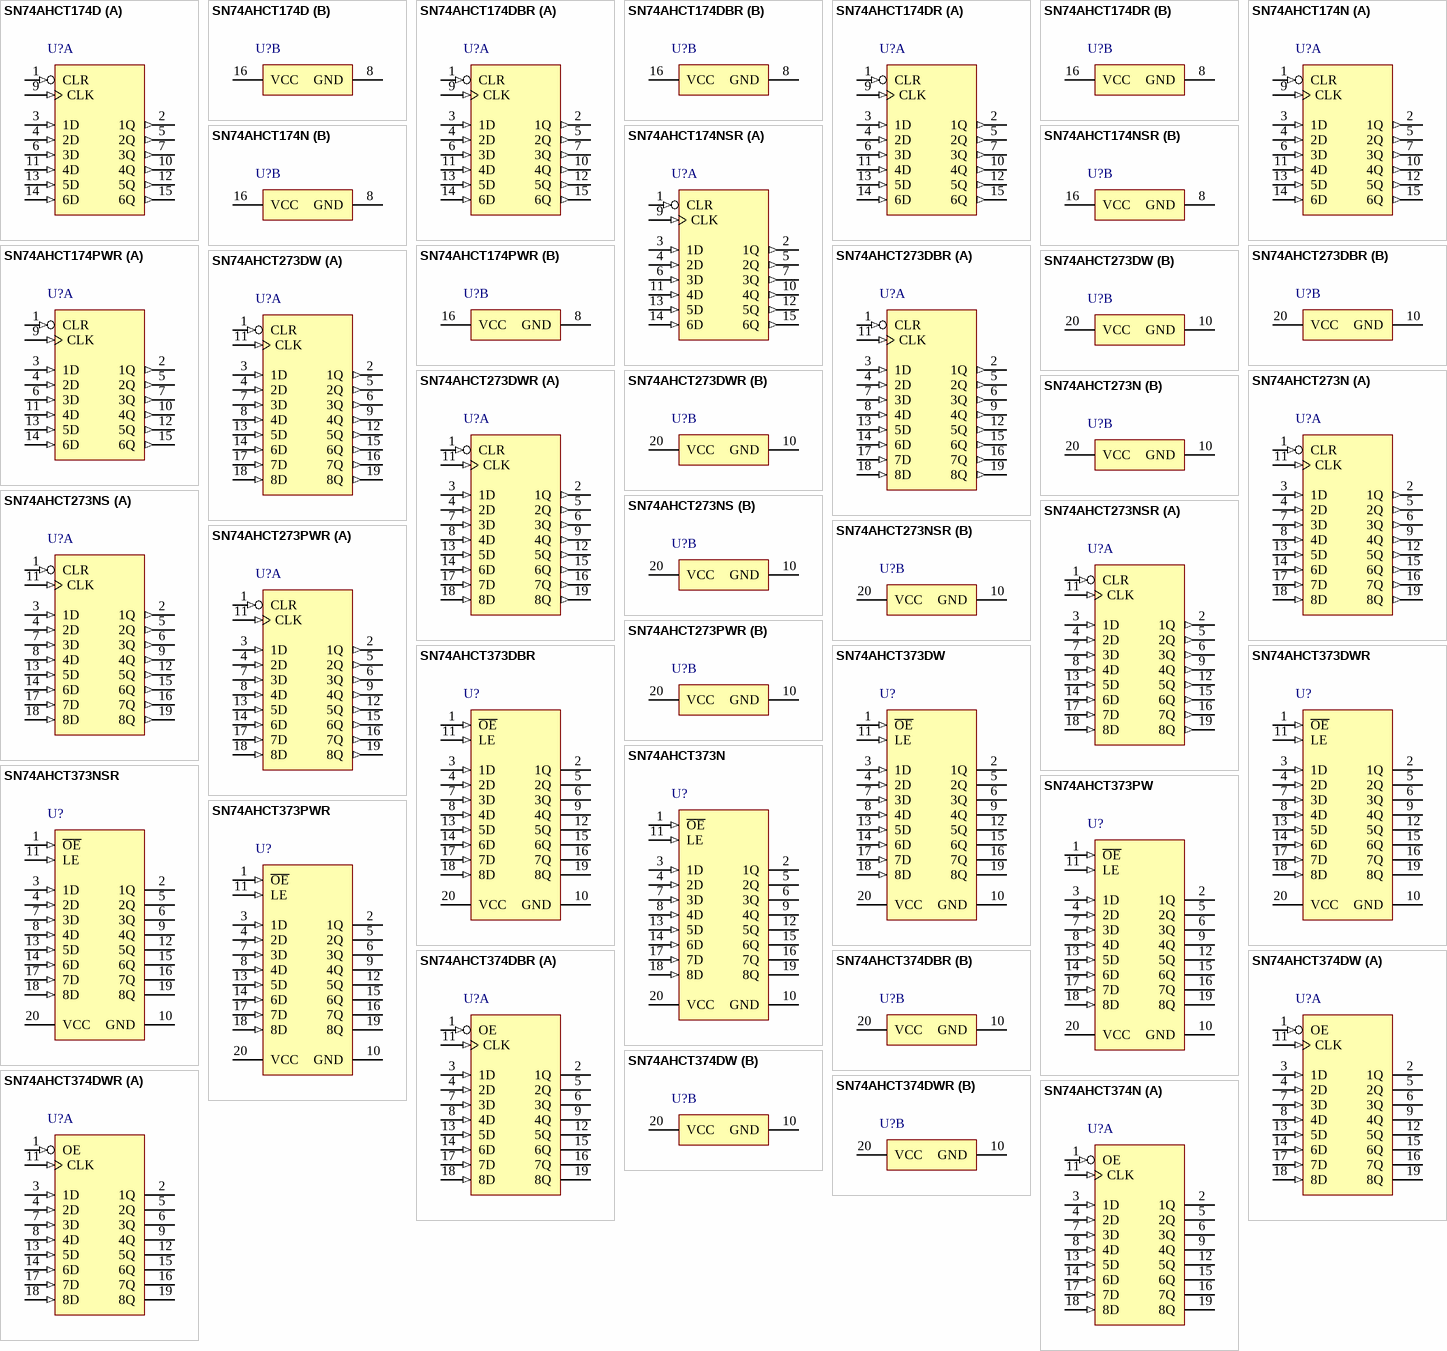
[diagram p69: symbols SN74AHCT174D to SN74AHCT374N]

## SN74AHCT174D
designator U?
Hex D-Type Flip-Flops With Clear, D0016A, TUBE; Generic Part Number: SN74AHCT174; Manufacturer: Texas Instruments; PartNumber: SN74AHCT174D; VCC(Min)(V): 4.5; VCC(Max)(V): 5.5; Output Type: CMOS; ICC @ Nom Voltage(Max)(mA): 0.04; Input Type: TTL; Bits(#): 6; F @ Nom Voltage(Max)(Mhz): 70; Rating: Catalog; Technology Family: AHCT; Voltage(Nom)(V): 5; Schmitt Trigger: No; Output Drive (IOL/IOH)(Max)(mA): 8/-8; Output Logic: Non-inverted; tpd @ Nom Voltage(Max)(ns): 10; DatasheetVersion: SCLS419F; PackageReference: D0016A; Supplier 1: Digi-Key; Supplier Part Number 1: 296-1475-5-ND; Supplier 2: Mouser; Supplier Part Number 2: 595-SN74AHCT174D; Operating Temperature Range(C): -40 to 85; 3-State Output: No; Code_JEDEC: MS-012 variation AC; ComponentLink1Description: Manufacturer URL; ComponentLink1URL: http://www.ti.com/; ComponentLink2Description: Datasheet; ComponentLink2URL: http://www.ti.com/lit/ds/symlink/sn74ahct174.pdf; ComponentLink3Description: Package Specification; ComponentLink3URL: http://www.ti.com/lit/ml/mpds178g/mpds178g.pdf
footprint D0016A_N (SOIC, 16-Leads, Body 10x4mm, Pitch 1.27mm, IPC Medium Density)
footprint D0016A_M (SOIC, 16-Leads, Body 10x4mm, Pitch 1.27mm, IPC Low Density)
footprint D0016A_L (SOIC, 16-Leads, Body 10x4mm, Pitch 1.27mm, IPC High Density)
part A pins: 1 CLR (in), 2 1Q (out), 3 1D (in), 4 2D (in), 5 2Q (out), 6 3D (in), 7 3Q (out), 9 CLK (in), 10 4Q (out), 11 4D (in), 12 5Q (out), 13 5D (in), 14 6D (in), 15 6Q (out)
part B pins: 8 GND (power), 16 VCC (power)

## SN74AHCT174DBR
designator U?
Hex D-Type Flip-Flops With Clear, DB0016A, LARGE T&R; Generic Part Number: SN74AHCT174; Manufacturer: Texas Instruments; PartNumber: SN74AHCT174DBR; VCC(Min)(V): 4.5; VCC(Max)(V): 5.5; Output Type: CMOS; ICC @ Nom Voltage(Max)(mA): 0.04; Input Type: TTL; Bits(#): 6; F @ Nom Voltage(Max)(Mhz): 70; Rating: Catalog; Technology Family: AHCT; Voltage(Nom)(V): 5; Schmitt Trigger: No; Output Drive (IOL/IOH)(Max)(mA): 8/-8; Output Logic: Non-inverted; tpd @ Nom Voltage(Max)(ns): 10; DatasheetVersion: SCLS419F; PackageReference: DB0016A; Supplier 1: Digi-Key; Supplier Part Number 1: 296-4702-2-ND; Supplier 2: Digi-Key; Supplier Part Number 2: 296-4702-1-ND; Supplier 3: Digi-Key; Supplier Part Number 3: 296-4702-6-ND; Supplier 4: Mouser; Supplier Part Number 4: 595-SN74AHCT174DBR; Operating Temperature Range(C): -40 to 85; 3-State Output: No; Code_JEDEC: MO-150; ComponentLink1Description: Manufacturer URL; ComponentLink1URL: http://www.ti.com/; ComponentLink2Description: Datasheet; ComponentLink2URL: http://www.ti.com/lit/ds/symlink/sn74ahct174.pdf; ComponentLink3Description: Package Specification; ComponentLink3URL: http://www.ti.com/lit/ml/mpds507/mpds507.pdf
footprint DB0016A_N (SOP, 16-Leads, Body 5.6x6.5mm, Pitch 0.65mm, IPC Medium Density)
footprint DB0016A_M (SOP, 16-Leads, Body 5.6x6.5mm, Pitch 0.65mm, IPC Low Density)
footprint DB0016A_L (SOP, 16-Leads, Body 5.6x6.5mm, Pitch 0.65mm, IPC High Density)
part A pins: 1 CLR (in), 2 1Q (out), 3 1D (in), 4 2D (in), 5 2Q (out), 6 3D (in), 7 3Q (out), 9 CLK (in), 10 4Q (out), 11 4D (in), 12 5Q (out), 13 5D (in), 14 6D (in), 15 6Q (out)
part B pins: 8 GND (power), 16 VCC (power)

## SN74AHCT174DR
designator U?
Hex D-Type Flip-Flops With Clear, D0016A, LARGE T&R; Generic Part Number: SN74AHCT174; Manufacturer: Texas Instruments; PartNumber: SN74AHCT174DR; VCC(Min)(V): 4.5; VCC(Max)(V): 5.5; Output Type: CMOS; ICC @ Nom Voltage(Max)(mA): 0.04; Input Type: TTL; Bits(#): 6; F @ Nom Voltage(Max)(Mhz): 70; Rating: Catalog; Technology Family: AHCT; Voltage(Nom)(V): 5; Schmitt Trigger: No; Output Drive (IOL/IOH)(Max)(mA): 8/-8; Output Logic: Non-inverted; tpd @ Nom Voltage(Max)(ns): 10; DatasheetVersion: SCLS419F; PackageReference: D0016A; Supplier 1: Digi-Key; Supplier Part Number 1: 296-31748-2-ND; Supplier 2: Digi-Key; Supplier Part Number 2: 296-31748-1-ND; Supplier 3: Digi-Key; Supplier Part Number 3: 296-31748-6-ND; Supplier 4: Newark; Supplier Part Number 4: 76C1583; Supplier 5: Mouser; Supplier Part Number 5: 595-SN74AHCT174DR; Operating Temperature Range(C): -40 to 85; 3-State Output: No; Code_JEDEC: MS-012 variation AC; ComponentLink1Description: Manufacturer URL; ComponentLink1URL: http://www.ti.com/; ComponentLink2Description: Datasheet; ComponentLink2URL: http://www.ti.com/lit/ds/symlink/sn74ahct174.pdf; ComponentLink3Description: Package Specification; ComponentLink3URL: http://www.ti.com/lit/ml/mpds178g/mpds178g.pdf
footprint D0016A_N (SOIC, 16-Leads, Body 10x4mm, Pitch 1.27mm, IPC Medium Density)
footprint D0016A_M (SOIC, 16-Leads, Body 10x4mm, Pitch 1.27mm, IPC Low Density)
footprint D0016A_L (SOIC, 16-Leads, Body 10x4mm, Pitch 1.27mm, IPC High Density)
part A pins: 1 CLR (in), 2 1Q (out), 3 1D (in), 4 2D (in), 5 2Q (out), 6 3D (in), 7 3Q (out), 9 CLK (in), 10 4Q (out), 11 4D (in), 12 5Q (out), 13 5D (in), 14 6D (in), 15 6Q (out)
part B pins: 8 GND (power), 16 VCC (power)

## SN74AHCT174N
designator U?
Hex D-Type Flip-Flops With Clear, N0016A, TUBE; Generic Part Number: SN74AHCT174; Manufacturer: Texas Instruments; PartNumber: SN74AHCT174N; VCC(Min)(V): 4.5; VCC(Max)(V): 5.5; Output Type: CMOS; ICC @ Nom Voltage(Max)(mA): 0.04; Input Type: TTL; Bits(#): 6; F @ Nom Voltage(Max)(Mhz): 70; Rating: Catalog; Technology Family: AHCT; Voltage(Nom)(V): 5; Schmitt Trigger: No; Output Drive (IOL/IOH)(Max)(mA): 8/-8; Output Logic: Non-inverted; tpd @ Nom Voltage(Max)(ns): 10; DatasheetVersion: SCLS419F; PackageReference: N0016A; Supplier 1: Digi-Key; Supplier Part Number 1: 296-33690-5-ND; Supplier 2: Mouser; Supplier Part Number 2: 595-SN74AHCT174N; Operating Temperature Range(C): -40 to 85; 3-State Output: No; Code_JEDEC: MS-001; ComponentLink1Description: Manufacturer URL; ComponentLink1URL: http://www.ti.com/; ComponentLink2Description: Datasheet; ComponentLink2URL: http://www.ti.com/lit/ds/symlink/sn74ahct174.pdf; ComponentLink3Description: Package Specification; ComponentLink3URL: http://www.ti.com/lit/ml/mpdi002c/mpdi002c.pdf
footprint N0016A (DIP, 16-Leads, Body 19.7x6.6mm, Pitch 2.54mm)
part A pins: 1 CLR (in), 2 1Q (out), 3 1D (in), 4 2D (in), 5 2Q (out), 6 3D (in), 7 3Q (out), 9 CLK (in), 10 4Q (out), 11 4D (in), 12 5Q (out), 13 5D (in), 14 6D (in), 15 6Q (out)
part B pins: 8 GND (power), 16 VCC (power)

## SN74AHCT174NSR
designator U?
Hex D-Type Flip-Flops With Clear, NS0016A, LARGE T&R; Generic Part Number: SN74AHCT174; Manufacturer: Texas Instruments; PartNumber: SN74AHCT174NSR; VCC(Min)(V): 4.5; VCC(Max)(V): 5.5; Output Type: CMOS; ICC @ Nom Voltage(Max)(mA): 0.04; Input Type: TTL; Bits(#): 6; F @ Nom Voltage(Max)(Mhz): 70; Rating: Catalog; Technology Family: AHCT; Voltage(Nom)(V): 5; Schmitt Trigger: No; Output Drive (IOL/IOH)(Max)(mA): 8/-8; Output Logic: Non-inverted; tpd @ Nom Voltage(Max)(ns): 10; DatasheetVersion: SCLS419F; PackageReference: NS0016A; Supplier 1: Digi-Key; Supplier Part Number 1: SN74AHCT174NSR-ND; Supplier 2: Mouser; Supplier Part Number 2: 595-SN74AHCT174NSR; Operating Temperature Range(C): -40 to 85; 3-State Output: No; ComponentLink1Description: Manufacturer URL; ComponentLink1URL: http://www.ti.com/; ComponentLink2Description: Datasheet; ComponentLink2URL: http://www.ti.com/lit/ds/symlink/sn74ahct174.pdf; ComponentLink3Description: Package Specification; ComponentLink3URL: http://www.ti.com/lit/ml/msop002a/msop002a.pdf
footprint NS0016A_N (SOIC,16-Leads,Body 10.5x5.6mm,Pitch 1.27mm,IPC Medium Density)
footprint NS0016A_M (SOIC,16-Leads,Body 10.5x5.6mm,Pitch 1.27mm,IPC Low Density)
footprint NS0016A_L (SOIC,16-Leads,Body 10.5x5.6mm,Pitch 1.27mm,IPC High Density)
part A pins: 1 CLR (in), 2 1Q (out), 3 1D (in), 4 2D (in), 5 2Q (out), 6 3D (in), 7 3Q (out), 9 CLK (in), 10 4Q (out), 11 4D (in), 12 5Q (out), 13 5D (in), 14 6D (in), 15 6Q (out)
part B pins: 8 GND (power), 16 VCC (power)

## SN74AHCT174PWR
designator U?
Hex D-Type Flip-Flops With Clear, PW0016A, LARGE T&R; Generic Part Number: SN74AHCT174; Manufacturer: Texas Instruments; PartNumber: SN74AHCT174PWR; VCC(Min)(V): 4.5; VCC(Max)(V): 5.5; Output Type: CMOS; ICC @ Nom Voltage(Max)(mA): 0.04; Input Type: TTL; Bits(#): 6; F @ Nom Voltage(Max)(Mhz): 70; Rating: Catalog; Technology Family: AHCT; Voltage(Nom)(V): 5; Schmitt Trigger: No; Output Drive (IOL/IOH)(Max)(mA): 8/-8; Output Logic: Non-inverted; tpd @ Nom Voltage(Max)(ns): 10; DatasheetVersion: SCLS419F; PackageReference: PW0016A; Supplier 1: Digi-Key; Supplier Part Number 1: 296-23236-2-ND; Supplier 2: Digi-Key; Supplier Part Number 2: 296-23236-1-ND; Supplier 3: Digi-Key; Supplier Part Number 3: 296-23236-6-ND; Supplier 4: Newark; Supplier Part Number 4: 76C1586; Supplier 5: Mouser; Supplier Part Number 5: 595-SN74AHCT174PWR; Operating Temperature Range(C): -40 to 85; 3-State Output: No; Code_JEDEC: MO-153; ComponentLink1Description: Manufacturer URL; ComponentLink1URL: http://www.ti.com/; ComponentLink2Description: Datasheet; ComponentLink2URL: http://www.ti.com/lit/ds/symlink/sn74ahct174.pdf; ComponentLink3Description: Package Specification; ComponentLink3URL: http://www.ti.com/lit/ml/mpds361/mpds361.pdf
footprint PW0016A_N (SOP, 16-Leads, Body 5.1x4.5mm, Pitch 0.65mm, IPC Medium Density)
footprint PW0016A_M (SOP, 16-Leads, Body 5.1x4.5mm, Pitch 0.65mm, IPC Low Density)
footprint PW0016A_L (SOP, 16-Leads, Body 5.1x4.5mm, Pitch 0.65mm, IPC High Density)
part A pins: 1 CLR (in), 2 1Q (out), 3 1D (in), 4 2D (in), 5 2Q (out), 6 3D (in), 7 3Q (out), 9 CLK (in), 10 4Q (out), 11 4D (in), 12 5Q (out), 13 5D (in), 14 6D (in), 15 6Q (out)
part B pins: 8 GND (power), 16 VCC (power)

## SN74AHCT273DBR
designator U?
Octal D-Type Flip-Flops With Clear, DB0020A, LARGE T&R; Generic Part Number: SN74AHCT273; Manufacturer: Texas Instruments; PartNumber: SN74AHCT273DBR; VCC(Min)(V): 4.5; VCC(Max)(V): 5.5; Output Type: CMOS; ICC @ Nom Voltage(Max)(mA): 0.04; Input Type: TTL; Bits(#): 8; F @ Nom Voltage(Max)(Mhz): 70; Rating: Catalog; Technology Family: AHCT; Voltage(Nom)(V): 5; Schmitt Trigger: No; Output Drive (IOL/IOH)(Max)(mA): 8/-8; Output Logic: Non-inverted; tpd @ Nom Voltage(Max)(ns): 11; DatasheetVersion: SCLS375F; PackageReference: DB0020A; Supplier 1: Digi-Key; Supplier Part Number 1: 296-4726-2-ND; Supplier 2: Digi-Key; Supplier Part Number 2: 296-4726-1-ND; Supplier 3: Digi-Key; Supplier Part Number 3: 296-4726-6-ND; Supplier 4: Mouser; Supplier Part Number 4: 595-SN74AHCT273DBR; Operating Temperature Range(C): -40 to 125,-40 to 85; 3-State Output: No; Code_JEDEC: MO-150; ComponentLink1Description: Manufacturer URL; ComponentLink1URL: http://www.ti.com/; ComponentLink2Description: Datasheet; ComponentLink2URL: http://www.ti.com/lit/ds/symlink/sn74ahct273.pdf; ComponentLink3Description: Package Specification; ComponentLink3URL: http://www.ti.com/lit/ml/mpds508/mpds508.pdf
footprint DB0020A_N (SOP, 20-Leads, Body 5.6x7.5mm, Pitch 0.65mm, IPC Medium Density)
footprint DB0020A_M (SOP, 20-Leads, Body 5.6x7.5mm, Pitch 0.65mm, IPC Low Density)
footprint DB0020A_L (SOP, 20-Leads, Body 5.6x7.5mm, Pitch 0.65mm, IPC High Density)
part A pins: 1 CLR (in) "Clear Pin", 2 1Q (out) "1Q Output", 3 1D (in) "1D Input", 4 2D (in) "2D Input", 5 2Q (out) "2Q Output", 6 3Q (out) "3Q Output", 7 3D (in) "3D Input", 8 4D (in) "4D Input", 9 4Q (out) "4Q Output", 11 CLK (in) "Clock Pin", 12 5Q (out) "5Q Output", 13 5D (in) "5D Input", 14 6D (in) "6D Input", 15 6Q (out) "6Q Output", 16 7Q (out) "7Q Output", 17 7D (in) "7D Input", 18 8D (in) "8D Input", 19 8Q (out) "8Q Output"
part B pins: 10 GND (power) "Ground Pin", 20 VCC (power) "Power Pin"

## SN74AHCT273DW
designator U?
Octal D-Type Flip-Flops With Clear, DW0020A, TUBE; Generic Part Number: SN74AHCT273; Manufacturer: Texas Instruments; PartNumber: SN74AHCT273DW; VCC(Min)(V): 4.5; VCC(Max)(V): 5.5; Output Type: CMOS; ICC @ Nom Voltage(Max)(mA): 0.04; Input Type: TTL; Bits(#): 8; F @ Nom Voltage(Max)(Mhz): 70; Rating: Catalog; Technology Family: AHCT; Voltage(Nom)(V): 5; Schmitt Trigger: No; Output Drive (IOL/IOH)(Max)(mA): 8/-8; Output Logic: Non-inverted; tpd @ Nom Voltage(Max)(ns): 11; DatasheetVersion: SCLS375F; PackageReference: DW0020A; Supplier 1: Digi-Key; Supplier Part Number 1: 296-13489-5-ND; Supplier 2: Farnell; Supplier Part Number 2: 1739872; Supplier 3: Mouser; Supplier Part Number 3: 595-SN74AHCT273DW; Operating Temperature Range(C): -40 to 125,-40 to 85; 3-State Output: No; Code_JEDEC: MS-013; ComponentLink1Description: Manufacturer URL; ComponentLink1URL: http://www.ti.com/; ComponentLink2Description: Datasheet; ComponentLink2URL: http://www.ti.com/lit/ds/symlink/sn74ahct273.pdf; ComponentLink3Description: Package Specification; ComponentLink3URL: http://www.ti.com/lit/ml/mpds173a/mpds173a.pdf
footprint DW0020A_N (SOIC, 20-Leads, Body 13x7.6mm, Pitch 1.27mm, IPC Medium Density)
footprint DW0020A_M (SOIC, 20-Leads, Body 13x7.6mm, Pitch 1.27mm, IPC Low Density)
footprint DW0020A_L (SOIC, 20-Leads, Body 13x7.6mm, Pitch 1.27mm, IPC High Density)
part A pins: 1 CLR (in) "Clear Pin", 2 1Q (out) "1Q Output", 3 1D (in) "1D Input", 4 2D (in) "2D Input", 5 2Q (out) "2Q Output", 6 3Q (out) "3Q Output", 7 3D (in) "3D Input", 8 4D (in) "4D Input", 9 4Q (out) "4Q Output", 11 CLK (in) "Clock Pin", 12 5Q (out) "5Q Output", 13 5D (in) "5D Input", 14 6D (in) "6D Input", 15 6Q (out) "6Q Output", 16 7Q (out) "7Q Output", 17 7D (in) "7D Input", 18 8D (in) "8D Input", 19 8Q (out) "8Q Output"
part B pins: 10 GND (power) "Ground Pin", 20 VCC (power) "Power Pin"

## SN74AHCT273DWR
designator U?
Octal D-Type Flip-Flops With Clear, DW0020A, LARGE T&R; Generic Part Number: SN74AHCT273; Manufacturer: Texas Instruments; PartNumber: SN74AHCT273DWR; VCC(Min)(V): 4.5; VCC(Max)(V): 5.5; Output Type: CMOS; ICC @ Nom Voltage(Max)(mA): 0.04; Input Type: TTL; Bits(#): 8; F @ Nom Voltage(Max)(Mhz): 70; Rating: Catalog; Technology Family: AHCT; Voltage(Nom)(V): 5; Schmitt Trigger: No; Output Drive (IOL/IOH)(Max)(mA): 8/-8; Output Logic: Non-inverted; tpd @ Nom Voltage(Max)(ns): 11; DatasheetVersion: SCLS375F; PackageReference: DW0020A; Supplier 1: Digi-Key; Supplier Part Number 1: 296-41403-2-ND; Supplier 2: Digi-Key; Supplier Part Number 2: 296-41403-1-ND; Supplier 3: Digi-Key; Supplier Part Number 3: 296-41403-6-ND; Supplier 4: Mouser; Supplier Part Number 4: 595-SN74AHCT273DWR; Operating Temperature Range(C): -40 to 125,-40 to 85; 3-State Output: No; Code_JEDEC: MS-013; ComponentLink1Description: Manufacturer URL; ComponentLink1URL: http://www.ti.com/; ComponentLink2Description: Datasheet; ComponentLink2URL: http://www.ti.com/lit/ds/symlink/sn74ahct273.pdf; ComponentLink3Description: Package Specification; ComponentLink3URL: http://www.ti.com/lit/ml/mpds173a/mpds173a.pdf
footprint DW0020A_N (SOIC, 20-Leads, Body 13x7.6mm, Pitch 1.27mm, IPC Medium Density)
footprint DW0020A_M (SOIC, 20-Leads, Body 13x7.6mm, Pitch 1.27mm, IPC Low Density)
footprint DW0020A_L (SOIC, 20-Leads, Body 13x7.6mm, Pitch 1.27mm, IPC High Density)
part A pins: 1 CLR (in) "Clear Pin", 2 1Q (out) "1Q Output", 3 1D (in) "1D Input", 4 2D (in) "2D Input", 5 2Q (out) "2Q Output", 6 3Q (out) "3Q Output", 7 3D (in) "3D Input", 8 4D (in) "4D Input", 9 4Q (out) "4Q Output", 11 CLK (in) "Clock Pin", 12 5Q (out) "5Q Output", 13 5D (in) "5D Input", 14 6D (in) "6D Input", 15 6Q (out) "6Q Output", 16 7Q (out) "7Q Output", 17 7D (in) "7D Input", 18 8D (in) "8D Input", 19 8Q (out) "8Q Output"
part B pins: 10 GND (power) "Ground Pin", 20 VCC (power) "Power Pin"

## SN74AHCT273N
designator U?
Octal D-Type Flip-Flops With Clear, N0020A, TUBE; Generic Part Number: SN74AHCT273; Manufacturer: Texas Instruments; PartNumber: SN74AHCT273N; VCC(Min)(V): 4.5; VCC(Max)(V): 5.5; Output Type: CMOS; ICC @ Nom Voltage(Max)(mA): 0.04; Input Type: TTL; Bits(#): 8; F @ Nom Voltage(Max)(Mhz): 70; Rating: Catalog; Technology Family: AHCT; Voltage(Nom)(V): 5; Schmitt Trigger: No; Output Drive (IOL/IOH)(Max)(mA): 8/-8; Output Logic: Non-inverted; tpd @ Nom Voltage(Max)(ns): 11; DatasheetVersion: SCLS375F; PackageReference: N0020A; Supplier 1: Digi-Key; Supplier Part Number 1: 296-33692-5-ND; Supplier 2: Farnell; Supplier Part Number 2: 1749805; Supplier 3: Mouser; Supplier Part Number 3: 595-SN74AHCT273N; Operating Temperature Range(C): -40 to 125,-40 to 85; 3-State Output: No; Code_JEDEC: MS-001; ComponentLink1Description: Manufacturer URL; ComponentLink1URL: http://www.ti.com/; ComponentLink2Description: Datasheet; ComponentLink2URL: http://www.ti.com/lit/ds/symlink/sn74ahct273.pdf; ComponentLink3Description: Package Specification; ComponentLink3URL: http://www.ti.com/lit/ml/mpdi002c/mpdi002c.pdf
footprint N0020A (DIP, 20-Leads, Body 26.9x6.6mm, Pitch 2.54mm)
part A pins: 1 CLR (in) "Clear Pin", 2 1Q (out) "1Q Output", 3 1D (in) "1D Input", 4 2D (in) "2D Input", 5 2Q (out) "2Q Output", 6 3Q (out) "3Q Output", 7 3D (in) "3D Input", 8 4D (in) "4D Input", 9 4Q (out) "4Q Output", 11 CLK (in) "Clock Pin", 12 5Q (out) "5Q Output", 13 5D (in) "5D Input", 14 6D (in) "6D Input", 15 6Q (out) "6Q Output", 16 7Q (out) "7Q Output", 17 7D (in) "7D Input", 18 8D (in) "8D Input", 19 8Q (out) "8Q Output"
part B pins: 10 GND (power) "Ground Pin", 20 VCC (power) "Power Pin"

## SN74AHCT273NS
designator U?
Octal D-Type Flip-Flops With Clear, NS0020A; Generic Part Number: SN74AHCT273; Manufacturer: Texas Instruments; PartNumber: SN74AHCT273NS; VCC(Min)(V): 4.5; VCC(Max)(V): 5.5; Output Type: CMOS; ICC @ Nom Voltage(Max)(mA): 0.04; Input Type: TTL; Bits(#): 8; F @ Nom Voltage(Max)(Mhz): 70; Rating: Catalog; Technology Family: AHCT; Voltage(Nom)(V): 5; Schmitt Trigger: No; Output Drive (IOL/IOH)(Max)(mA): 8/-8; Output Logic: Non-inverted; tpd @ Nom Voltage(Max)(ns): 11; DatasheetVersion: SCLS375F; PackageReference: NS0020A; Operating Temperature Range(C): -40 to 125,-40 to 85; 3-State Output: No; ComponentLink1Description: Manufacturer URL; ComponentLink1URL: http://www.ti.com/; ComponentLink2Description: Datasheet; ComponentLink2URL: http://www.ti.com/lit/ds/symlink/sn74ahct273.pdf; ComponentLink3Description: Package Specification; ComponentLink3URL: http://www.ti.com/lit/ml/msop002a/msop002a.pdf
footprint NS0020A_N (SOIC,20-Leads,Body 12.9x5.6mm,Pitch 1.27mm,IPC Medium Density)
footprint NS0020A_M (SOIC,20-Leads,Body 12.9x5.6mm,Pitch 1.27mm,IPC Low Density)
footprint NS0020A_L (SOIC,20-Leads,Body 12.9x5.6mm,Pitch 1.27mm,IPC High Density)
part A pins: 1 CLR (in) "Clear Pin", 2 1Q (out) "1Q Output", 3 1D (in) "1D Input", 4 2D (in) "2D Input", 5 2Q (out) "2Q Output", 6 3Q (out) "3Q Output", 7 3D (in) "3D Input", 8 4D (in) "4D Input", 9 4Q (out) "4Q Output", 11 CLK (in) "Clock Pin", 12 5Q (out) "5Q Output", 13 5D (in) "5D Input", 14 6D (in) "6D Input", 15 6Q (out) "6Q Output", 16 7Q (out) "7Q Output", 17 7D (in) "7D Input", 18 8D (in) "8D Input", 19 8Q (out) "8Q Output"
part B pins: 10 GND (power) "Ground Pin", 20 VCC (power) "Power Pin"

## SN74AHCT273NSR
designator U?
Octal D-Type Flip-Flops With Clear, NS0020A, LARGE T&R; Generic Part Number: SN74AHCT273; Manufacturer: Texas Instruments; PartNumber: SN74AHCT273NSR; VCC(Min)(V): 4.5; VCC(Max)(V): 5.5; Output Type: CMOS; ICC @ Nom Voltage(Max)(mA): 0.04; Input Type: TTL; Bits(#): 8; F @ Nom Voltage(Max)(Mhz): 70; Rating: Catalog; Technology Family: AHCT; Voltage(Nom)(V): 5; Schmitt Trigger: No; Output Drive (IOL/IOH)(Max)(mA): 8/-8; Output Logic: Non-inverted; tpd @ Nom Voltage(Max)(ns): 11; DatasheetVersion: SCLS375F; PackageReference: NS0020A; Supplier 1: Digi-Key; Supplier Part Number 1: 296-28864-2-ND; Supplier 2: Digi-Key; Supplier Part Number 2: 296-28864-1-ND; Supplier 3: Digi-Key; Supplier Part Number 3: 296-28864-6-ND; Supplier 4: Newark; Supplier Part Number 4: 76C1609; Supplier 5: Mouser; Supplier Part Number 5: 595-SN74AHCT273NSR; Operating Temperature Range(C): -40 to 125,-40 to 85; 3-State Output: No; ComponentLink1Description: Manufacturer URL; ComponentLink1URL: http://www.ti.com/; ComponentLink2Description: Datasheet; ComponentLink2URL: http://www.ti.com/lit/ds/symlink/sn74ahct273.pdf; ComponentLink3Description: Package Specification; ComponentLink3URL: http://www.ti.com/lit/ml/msop002a/msop002a.pdf
footprint NS0020A_N (SOIC,20-Leads,Body 12.9x5.6mm,Pitch 1.27mm,IPC Medium Density)
footprint NS0020A_M (SOIC,20-Leads,Body 12.9x5.6mm,Pitch 1.27mm,IPC Low Density)
footprint NS0020A_L (SOIC,20-Leads,Body 12.9x5.6mm,Pitch 1.27mm,IPC High Density)
part A pins: 1 CLR (in) "Clear Pin", 2 1Q (out) "1Q Output", 3 1D (in) "1D Input", 4 2D (in) "2D Input", 5 2Q (out) "2Q Output", 6 3Q (out) "3Q Output", 7 3D (in) "3D Input", 8 4D (in) "4D Input", 9 4Q (out) "4Q Output", 11 CLK (in) "Clock Pin", 12 5Q (out) "5Q Output", 13 5D (in) "5D Input", 14 6D (in) "6D Input", 15 6Q (out) "6Q Output", 16 7Q (out) "7Q Output", 17 7D (in) "7D Input", 18 8D (in) "8D Input", 19 8Q (out) "8Q Output"
part B pins: 10 GND (power) "Ground Pin", 20 VCC (power) "Power Pin"

## SN74AHCT273PWR
designator U?
Octal D-Type Flip-Flops With Clear, PW0020A, LARGE T&R; Generic Part Number: SN74AHCT273; Manufacturer: Texas Instruments; PartNumber: SN74AHCT273PWR; VCC(Min)(V): 4.5; VCC(Max)(V): 5.5; Output Type: CMOS; ICC @ Nom Voltage(Max)(mA): 0.04; Input Type: TTL; Bits(#): 8; F @ Nom Voltage(Max)(Mhz): 70; Rating: Catalog; Technology Family: AHCT; Voltage(Nom)(V): 5; Schmitt Trigger: No; Output Drive (IOL/IOH)(Max)(mA): 8/-8; Output Logic: Non-inverted; tpd @ Nom Voltage(Max)(ns): 11; DatasheetVersion: SCLS375F; PackageReference: PW0020A; Supplier 1: Digi-Key; Supplier Part Number 1: 296-4727-2-ND; Supplier 2: Digi-Key; Supplier Part Number 2: 296-4727-1-ND; Supplier 3: Digi-Key; Supplier Part Number 3: 296-4727-6-ND; Supplier 4: Newark; Supplier Part Number 4: 76C1610; Supplier 5: Mouser; Supplier Part Number 5: 595-SN74AHCT273PWR; Operating Temperature Range(C): -40 to 125,-40 to 85; 3-State Output: No; Code_JEDEC: MO-153; ComponentLink1Description: Manufacturer URL; ComponentLink1URL: http://www.ti.com/; ComponentLink2Description: Datasheet; ComponentLink2URL: http://www.ti.com/lit/ds/symlink/sn74ahct273.pdf; ComponentLink3Description: Package Specification; ComponentLink3URL: http://www.ti.com/lit/ml/mpds362/mpds362.pdf
footprint PW0020A_N (SOP, 20-Leads, Body 6.6x4.5mm, Pitch 0.65mm, IPC Medium Density)
footprint PW0020A_M (SOP, 20-Leads, Body 6.6x4.5mm, Pitch 0.65mm, IPC Low Density)
footprint PW0020A_L (SOP, 20-Leads, Body 6.6x4.5mm, Pitch 0.65mm, IPC High Density)
part A pins: 1 CLR (in) "Clear Pin", 2 1Q (out) "1Q Output", 3 1D (in) "1D Input", 4 2D (in) "2D Input", 5 2Q (out) "2Q Output", 6 3Q (out) "3Q Output", 7 3D (in) "3D Input", 8 4D (in) "4D Input", 9 4Q (out) "4Q Output", 11 CLK (in) "Clock Pin", 12 5Q (out) "5Q Output", 13 5D (in) "5D Input", 14 6D (in) "6D Input", 15 6Q (out) "6Q Output", 16 7Q (out) "7Q Output", 17 7D (in) "7D Input", 18 8D (in) "8D Input", 19 8Q (out) "8Q Output"
part B pins: 10 GND (power) "Ground Pin", 20 VCC (power) "Power Pin"